# EAGLE library part MPU-6000 (library hurst)
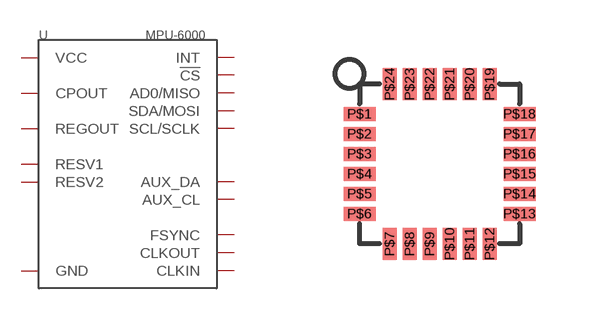
[diagram p8: symbol with the pads of QFN24; footprint QFN24]

Designator prefix -

## MPU-6000  [QFN24]
P$1  CLKIN
P$6  AUX_DA
P$7  AUX_CL
P$8  !CS
P$9  AD0/MISO
P$10  REGOUT
P$11  FSYNC
P$12  INT
P$13  VCC
P$18  GND
P$19  RESV1
P$20  CPOUT
P$21  RESV2
P$22  CLKOUT
P$23  SCL/SCLK
P$24  SDA/MOSI

## Footprint QFN24 (pad centres in mm)
smd 0.8 x 0.35: P$1 -2,1.25; P$2 -2,0.75; P$3 -2,0.25; P$4 -2,-0.25; P$5 -2,-0.75; P$6 -2,-1.25; P$13 2,-1.25; P$14 2,-0.75; P$15 2,-0.25; P$16 2,0.25; P$17 2,0.75; P$18 2,1.25
smd 0.35 x 0.8: P$7 -1.25,-2; P$8 -0.75,-2; P$9 -0.25,-2; P$10 0.25,-2; P$11 0.75,-2; P$12 1.25,-2; P$19 1.25,2; P$20 0.75,2; P$21 0.25,2; P$22 -0.25,2; P$23 -0.75,2; P$24 -1.25,2